# EAGLE library part LISY300AL (library IC)
ST Microelectronics single-axis +/-300deg/s analog output yaw rate gyroscope
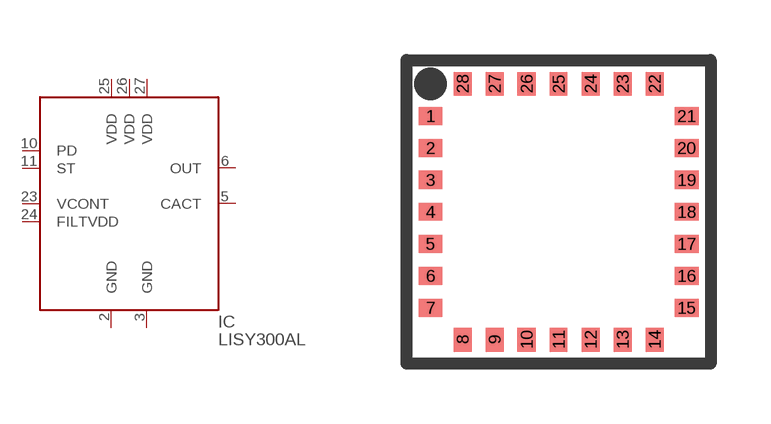
[diagram p170: symbol with the pads of LGA28; footprint LGA28]

Designator prefix IC

## LISY300AL  [LGA28]
2  GND  pwr
3  GND  pwr
5  CACT
6  OUT
10  PD
11  ST
23  VCONT
24  FILTVDD
25  VDD  pwr
26  VDD  pwr
27  VDD  pwr

## Footprint LGA28 (pad centres in mm)
ST Microelectronics 28 pin Land Grid Array Package
smd 0.6 x 0.45: 1 -3.2,2.4; 2 -3.2,1.6; 3 -3.2,0.8; 4 -3.2,0; 5 -3.2,-0.8; 6 -3.2,-1.6; 7 -3.2,-2.4; 15 3.2,-2.4; 16 3.2,-1.6; 17 3.2,-0.8; 18 3.2,0; 19 3.2,0.8; 20 3.2,1.6; 21 3.2,2.4
smd 0.45 x 0.6: 8 -2.4,-3.2; 9 -1.6,-3.2; 10 -0.8,-3.2; 11 0,-3.2; 12 0.8,-3.2; 13 1.6,-3.2; 14 2.4,-3.2; 22 2.4,3.2; 23 1.6,3.2; 24 0.8,3.2; 25 0,3.2; 26 -0.8,3.2; 27 -1.6,3.2; 28 -2.4,3.2